# EAGLE library part TXS0108E (library quentin)
8B level shifter w/ pull-up
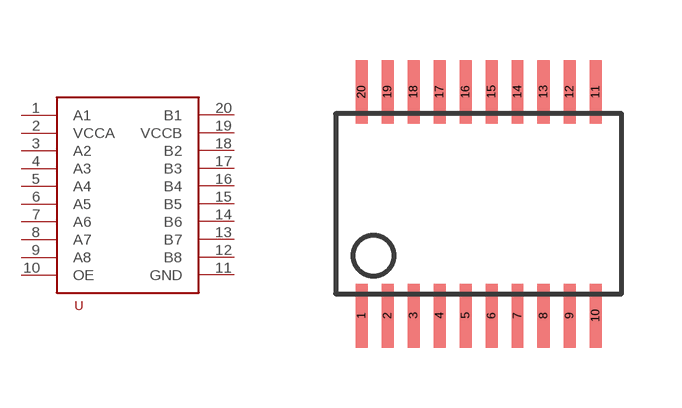
[diagram p18: symbol with the pads of TSSOP20; footprint TSSOP20]

Designator prefix -

## TXS0108EPW  [TSSOP20]
1  A1
2  VCCA
3  A2
4  A3
5  A4
6  A5
7  A6
8  A7
9  A8
10  OE
11  GND
12  B8
13  B7
14  B6
15  B5
16  B4
17  B3
18  B2
19  VCCB
20  B1

## Footprint TSSOP20 (pad centres in mm)
smd 0.3 x 1.6: 1 0,0; 2 0.65,0; 3 1.3,0; 4 1.95,0; 5 2.6,0; 6 3.25,0; 7 3.9,0; 8 4.55,0; 9 5.2,0; 10 5.85,0; 11 5.85,5.6; 12 5.2,5.6; 13 4.55,5.6; 14 3.9,5.6; 15 3.25,5.6; 16 2.6,5.6; 17 1.95,5.6; 18 1.3,5.6; 19 0.65,5.6; 20 0,5.6